# EAGLE library part MF2X3M (library gost_con_mini-fit)
Molex Mini-Fit Jr.™ Connectors
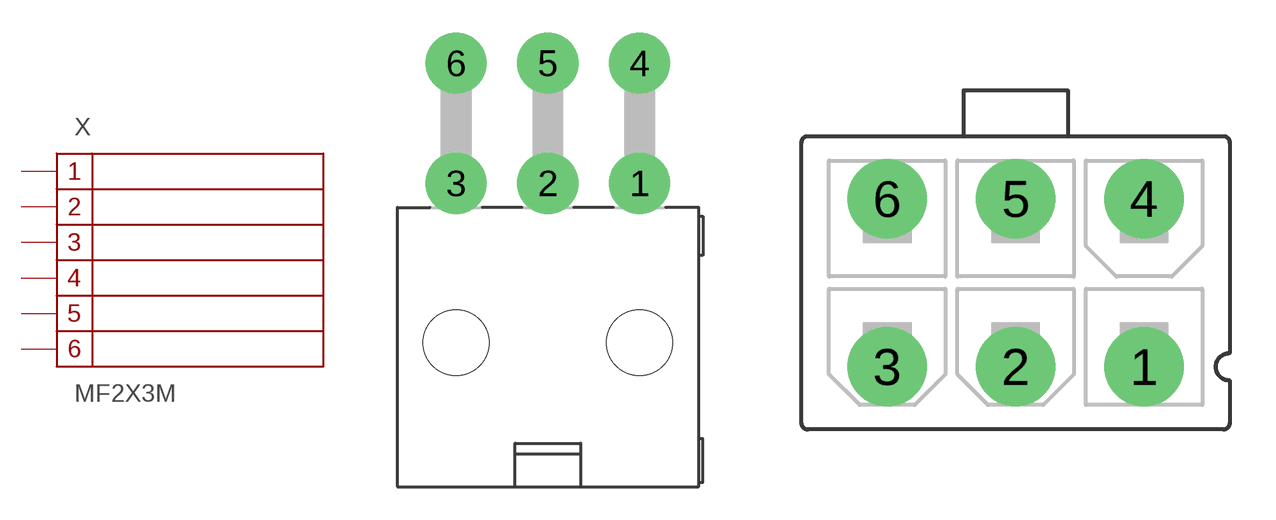
[diagram p3: symbol with the pads of MF2X3MRA; footprints MF2X3MRA, MF2X3MA]

Designator prefix X

## MF2X3MRA  [MF2X3MRA]
1  1
2  2
3  3
4  4
5  5
6  6

## MF2X3MA  [MF2X3MA]
Pads as for MF2X3MRA

## MF2X3MRB  [MF2X3MRB]
Pads as for MF2X3MRA

## MF2X3MR  [MF2X3MR]
Pads as for MF2X3MRA

## Footprint MF2X3MRA (pad centres in mm)
drill 1.8 pad 2.8: 1 4.2,-2.1; 2 0,-2.1; 3 -4.2,-2.1; 4 4.2,3.4; 5 0,3.4; 6 -4.2,3.4
hole 3 at -4.2,-9.4
hole 3 at 4.2,-9.4

## Footprint MF2X3MA (pad centres in mm)
drill 1.4 pad 2.6: 1 4.2,-2.75; 2 0,-2.75; 3 -4.2,-2.75; 4 4.2,2.75; 5 0,2.75; 6 -4.2,2.75

## Footprint MF2X3MRB (pad centres in mm)
drill 1.8 pad 2.8: 1 4.2,-2.1; 2 0,-2.1; 3 -4.2,-2.1; 4 4.2,3.4; 5 0,3.4; 6 -4.2,3.4
hole 2.4 at 8.8,-6.3
hole 2.4 at -8.8,-6.3

## Footprint MF2X3MR (pad centres in mm)
drill 1.8 pad 2.8: 1 4.2,-2.1; 2 0,-2.1; 3 -4.2,-2.1; 4 4.2,3.4; 5 0,3.4; 6 -4.2,3.4